# Altium footprint library TSSOP-5(2.0X1.2).PcbLib: 1 footprints
Each footprint in its own frame and in the unit in brackets; x right, y up, seen from the top. Pads: shape width x height; smd on the part's side, far side on the other; paste and mask are expansions set on the pad; w line width, h text height; cw(c..) or ccw(c..) is an arc to the next point about the centre after c.
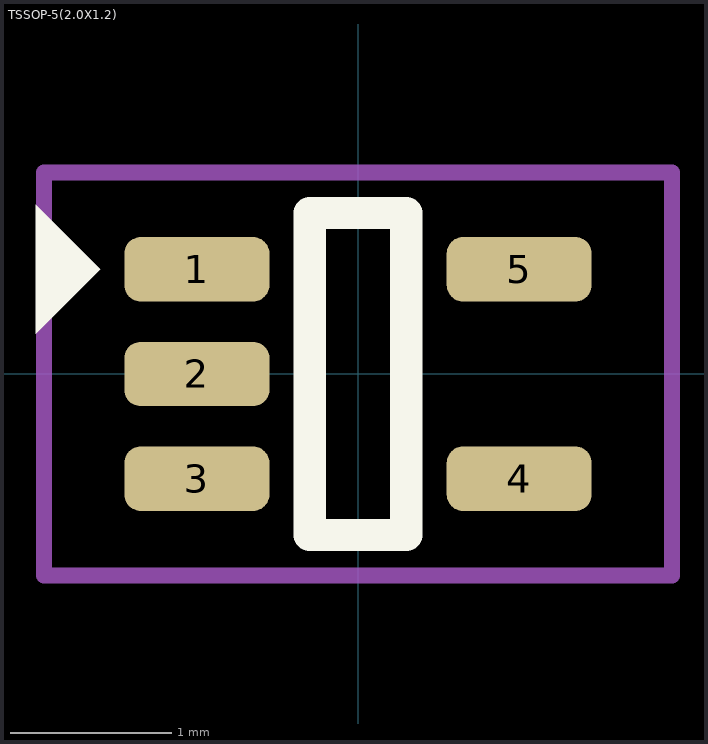
[diagram p0: the footprint, top view; thin cyan lines are the x and y axes]

## TSSOP-5(2.0X1.2) [mm]
pads (5):
  rrect50% 0.9x0.4 smd: 1(-1,0.65) 2(-1,0) 3(-1,-0.65) 4(1,-0.65) 5(1,0.65)
Top Overlay:
  region: -2,0.25 -2,1.05 -1.6,0.65
  lines w0.2: -0.3,-1 -0.3,1 0.3,1 0.3,-1 -0.3,-1
Top Courtyard:
  lines w0.1: -1.95,-1.25 -1.95,1.25 1.95,1.25 1.95,-1.25 -1.05,-1.25 -1.95,-1.25
3D body "SN74LV1T34DCKR.STEP": height 1.1, standoff 0, extent -1.05,-1 1.05,1